# Altium schematic symbol library Transistors.SchLib: 14 symbols
Pins are listed as number, name and electrical type; pins without a type are passive.

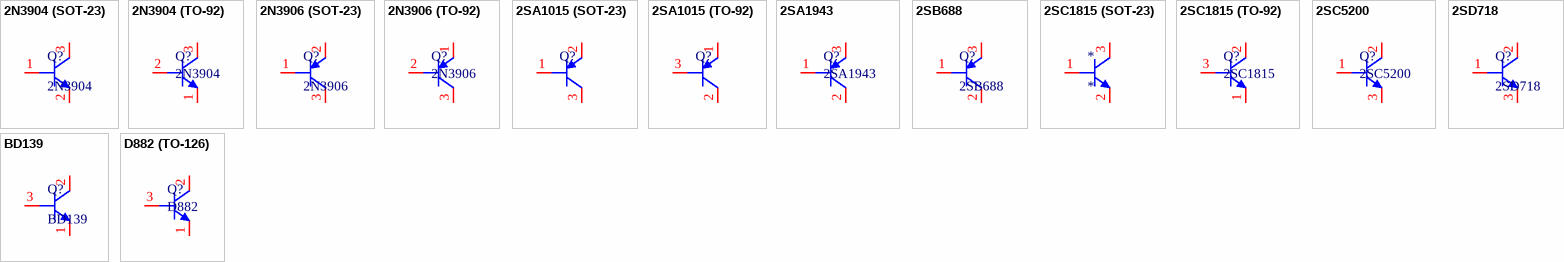
[diagram p0: symbols 2N3904 (SOT-23) to D882 (TO-126)]

## 2N3904 (SOT-23)
designator Q?, comment 2N3904
pins: 1 B, 2 E, 3 C

## 2N3904 (TO-92)
designator Q?, comment 2N3904
footprint TO-92
pins: 1 E, 2 B, 3 C

## 2N3906 (SOT-23)
designator Q?, comment 2N3906
pins: 1 B, 2 E, 3 C

## 2N3906 (TO-92)
designator Q?, comment 2N3906
footprint TO-92
pins: 1 E, 2 B, 3 C

## 2SA1015 (SOT-23)
designator Q?, comment 2SA1015  (value not drawn)
pins: 1 B, 2 E, 3 C

## 2SA1015 (TO-92)
designator Q?, comment 2SA1015  (value not drawn)
footprint TO-92
pins: 1 E, 2 C, 3 B

## 2SA1943
designator Q?
footprint TO-264
pins: 1 B, 2 C, 3 E

## 2SB688
designator Q?
footprint TO-3P
pins: 1 B, 2 C, 3 E

## 2SC1815 (SOT-23)
designator *
pins: 1 B, 2 E, 3 C

## 2SC1815 (TO-92)
designator Q?, comment 2SC1815
footprint TO-92
pins: 1 E, 2 C, 3 B

## 2SC5200
designator Q?
footprint TO-264
pins: 1 B, 2 C, 3 E

## 2SD718
designator Q?
footprint TO-3P
pins: 1 B, 2 C, 3 E

## BD139
designator Q?
footprint TO-126
pins: 1 E, 2 C, 3 B

## D882 (TO-126)
designator Q?, comment D882
footprint TO-126
pins: 1 E, 2 C, 3 B